# EAGLE library part EL_UNO_QUE_QUERIA_SER_MEGA (library MAÑE)
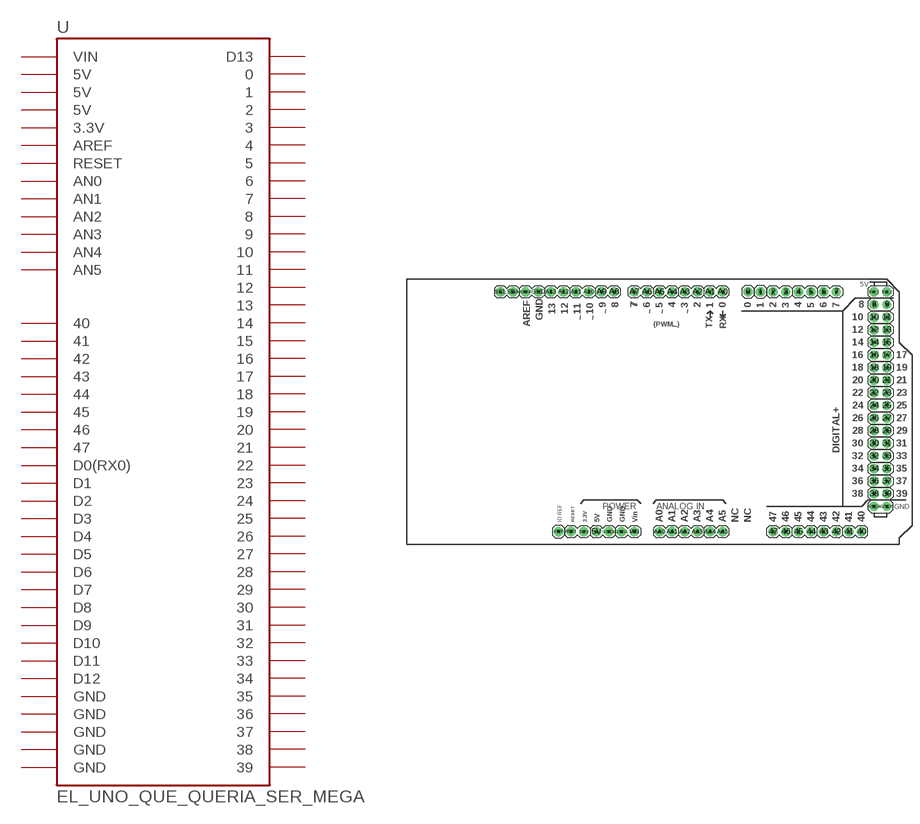
[diagram p11: symbol with the pads of EL_UNO_QUE_QUERIA_SER_MEGA; footprint EL_UNO_QUE_QUERIA_SER_MEGA]

Designator prefix -

## EL_UNO_QUE_QUERIA_SER_MEGA  [EL_UNO_QUE_QUERIA_SER_MEGA]
0  0
1  1
2  2
3  3
3.3V  3.3V
4  4
5  5
5V  5V
5V_1  5V
5V_2  5V
6  6
7  7
8  8
9  9
10  10
11  11
12  12
13  13
14  14
15  15
16  16
17  17
18  18
19  19
20  20
21  21
22  22
23  23
24  24
25  25
26  26
27  27
28  28
29  29
30  30
31  31
32  32
33  33
34  34
35  35
36  36
37  37
38  38
39  39
40  40
41  41
42  42
43  43
44  44
45  45
46  46
47  47
A0  D0(RX0)
A1  D1
A2  D2
A3  D3
A4  D4
A5  D5
A6  D6
A7  D7
A8  D8
A9  D9
A10  D10
A11  D11
A12  D12
A13  D13
AA0  AN0
AA1  AN1
AA2  AN2
AA3  AN3
AA4  AN4
AA5  AN5
AREF  AREF
GND  GND
GND1  GND
GND2  GND
GND4  GND
GND5  GND
RESET  RESET
SCL  AN5
SDA  AN4
VIN  VIN

## Footprint EL_UNO_QUE_QUERIA_SER_MEGA (pad centres in mm)
drill 1.016 pad 1.88: 0 68.58,50.8; 1 71.12,50.8; 2 73.66,50.8; 3 76.2,50.8; 3.3V 35.56,2.54; 4 78.74,50.8; 5 81.28,50.8; 5V 38.1,2.54; 5V_1 93.98,50.8; 5V_2 96.52,50.8; 6 83.82,50.8; 7 86.36,50.8; 8 93.98,48.26; 9 96.52,48.26; 10 93.98,45.72; 11 96.52,45.72; 12 93.98,43.18; 13 96.52,43.18; 14 93.98,40.64; 15 96.52,40.64; 16 93.98,38.1; 17 96.52,38.1; 18 93.98,35.56; 19 96.52,35.56; 20 93.98,33.02; 21 96.52,33.02; 22 93.98,30.48; 23 96.52,30.48; 24 93.98,27.94; 25 96.52,27.94; 26 93.98,25.4; 27 96.52,25.4; 28 93.98,22.86; 29 96.52,22.86; 30 93.98,20.32; 31 96.52,20.32; 32 93.98,17.78; 33 96.52,17.78; 34 93.98,15.24; 35 96.52,15.24; 36 93.98,12.7; 37 96.52,12.7; 38 93.98,10.16; 39 96.52,10.16; 40 91.44,2.54; 41 88.9,2.54; 42 86.36,2.54; 43 83.82,2.54; 44 81.28,2.54; 45 78.74,2.54; 46 76.2,2.54; 47 73.66,2.54; A0 63.5,50.8; A1 60.96,50.8; A2 58.42,50.8; A3 55.88,50.8; A4 53.34,50.8; A5 50.8,50.8; A6 48.26,50.8; A7 45.72,50.8; A8 41.656,50.825; A9 39.116,50.825; A10 36.576,50.825; A11 34.036,50.825; A12 31.496,50.825; A13 28.956,50.825; AA0 50.8,2.54; AA1 53.34,2.54; AA2 55.88,2.54; AA3 58.42,2.54; AA4 60.96,2.54; AA5 63.5,2.54; AREF 23.876,50.825; GND 26.416,50.825; GND1 43.18,2.54; GND2 40.64,2.54; GND4 93.98,7.62; GND5 96.52,7.62; IOREF 30.48,2.54; RESET 33.02,2.54; SCL 18.796,50.825; SDA 21.336,50.825; VIN 45.72,2.54